# EAGLE library part 72SIMM_DRAM (library Amiga)
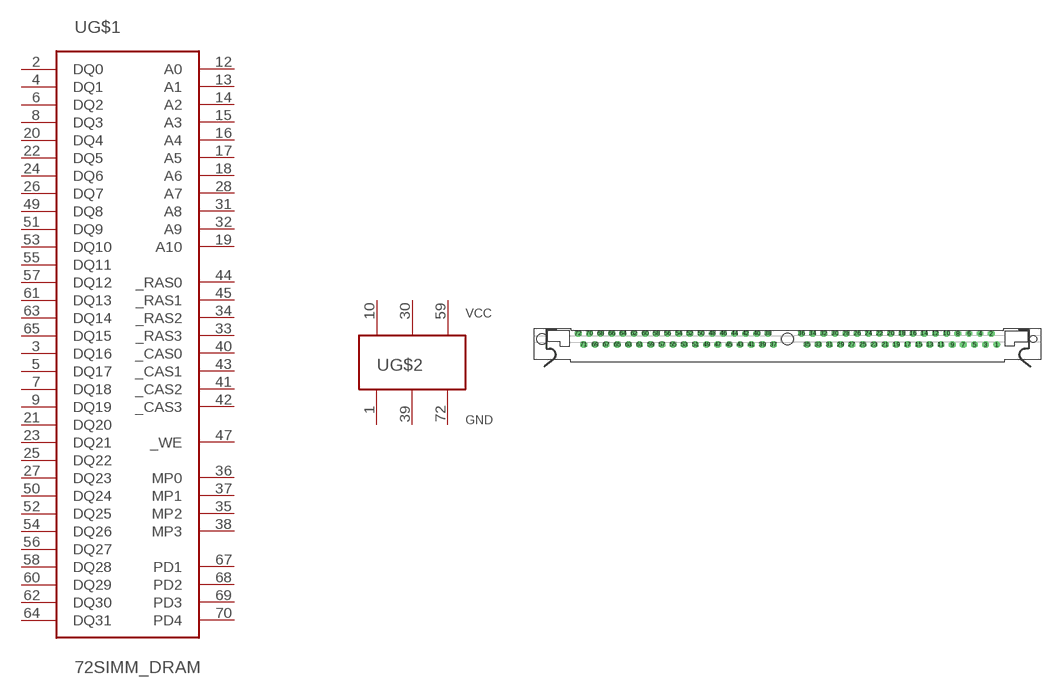
[diagram p43: symbol with the pads of 73826962; footprint 73826962]

Designator prefix U; gates G$1=72SIMM-DRAM G$2=3VCC-3GND

## 72SIMM_DRAM  [73826962]
1  G$2:GND  pwr
2  G$1:DQ0
3  G$1:DQ16
4  G$1:DQ1
5  G$1:DQ17
6  G$1:DQ2
7  G$1:DQ18
8  G$1:DQ3
9  G$1:DQ19
10  G$2:VCC  pwr
12  G$1:A0  in
13  G$1:A1  in
14  G$1:A2  in
15  G$1:A3  in
16  G$1:A4  in
17  G$1:A5  in
18  G$1:A6  in
19  G$1:A10  in
20  G$1:DQ4
21  G$1:DQ20
22  G$1:DQ5
23  G$1:DQ21
24  G$1:DQ6
25  G$1:DQ22
26  G$1:DQ7
27  G$1:DQ23
28  G$1:A7  in
30  G$2:VCC  pwr
31  G$1:A8  in
32  G$1:A9  in
33  G$1:_RAS3  in
34  G$1:_RAS2  in
35  G$1:MP2
36  G$1:MP0
37  G$1:MP1
38  G$1:MP3
39  G$2:GND  pwr
40  G$1:_CAS0  in
41  G$1:_CAS2  in
42  G$1:_CAS3  in
43  G$1:_CAS1  in
44  G$1:_RAS0  in
45  G$1:_RAS1  in
47  G$1:_WE  in
49  G$1:DQ8
50  G$1:DQ24
51  G$1:DQ9
52  G$1:DQ25
53  G$1:DQ10
54  G$1:DQ26
55  G$1:DQ11
56  G$1:DQ27
57  G$1:DQ12
58  G$1:DQ28
59  G$2:VCC  pwr
60  G$1:DQ29
61  G$1:DQ13
62  G$1:DQ30
63  G$1:DQ14
64  G$1:DQ31
65  G$1:DQ15
67  G$1:PD1  out
68  G$1:PD2  out
69  G$1:PD3  out
70  G$1:PD4  out
72  G$2:GND  pwr

## Footprint 73826962 (pad centres in mm)
SIMM II Socket
drill 1.016: 1 47.625,-1.27
drill 1.016 octagon: 2 46.355,1.27; 3 45.085,-1.27; 4 43.815,1.27; 5 42.545,-1.27; 6 41.275,1.27; 7 40.005,-1.27; 8 38.735,1.27; 9 37.465,-1.27; 10 36.195,1.27; 11 34.925,-1.27; 12 33.655,1.27; 13 32.385,-1.27; 14 31.115,1.27; 15 29.845,-1.27; 16 28.575,1.27; 17 27.305,-1.27; 18 26.035,1.27; 19 24.765,-1.27; 20 23.495,1.27; 21 22.225,-1.27; 22 20.955,1.27; 23 19.685,-1.27; 24 18.415,1.27; 25 17.145,-1.27; 26 15.875,1.27; 27 14.605,-1.27; 28 13.335,1.27; 29 12.065,-1.27; 30 10.795,1.27; 31 9.525,-1.27; 32 8.255,1.27; 33 6.985,-1.27; 34 5.715,1.27; 35 4.445,-1.27; 36 3.175,1.27; 37 -3.175,-1.27; 38 -4.445,1.27; 39 -5.715,-1.27; 40 -6.985,1.27; 41 -8.255,-1.27; 42 -9.525,1.27; 43 -10.795,-1.27; 44 -12.065,1.27; 45 -13.335,-1.27; 46 -14.605,1.27; 47 -15.875,-1.27; 48 -17.145,1.27; 49 -18.415,-1.27; 50 -19.685,1.27; 51 -20.955,-1.27; 52 -22.225,1.27; 53 -23.495,-1.27; 54 -24.765,1.27; 55 -26.035,-1.27; 56 -27.305,1.27; 57 -28.575,-1.27; 58 -29.845,1.27; 59 -31.115,-1.27; 60 -32.385,1.27; 61 -33.655,-1.27; 62 -34.925,1.27; 63 -36.195,-1.27; 64 -37.465,1.27; 65 -38.735,-1.27; 66 -40.005,1.27; 67 -41.275,-1.27; 68 -42.545,1.27; 69 -43.815,-1.27; 70 -45.085,1.27; 71 -46.355,-1.27; 72 -47.625,1.27
hole 2.362 at -55.88,0
hole 1.575 at 55.88,0
hole 2.54 at 0,0